# EAGLE library part PTOP-14 (library con-amp_edit)
AMP connector
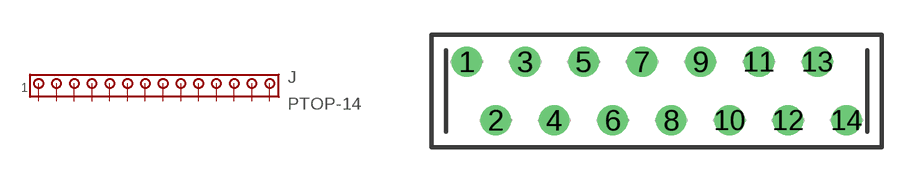
[diagram p164: symbol with the pads of PTOP-14; footprint PTOP-14]

Designator prefix J

## PTOP-14  [PTOP-14]
1  1  pas
2  2  pas
3  3  pas
4  4  pas
5  5  pas
6  6  pas
7  7  pas
8  8  pas
9  9  pas
10  10  pas
11  11  pas
12  12  pas
13  13  pas
14  14  pas

## Footprint PTOP-14 (pad centres in mm)
AMP connector
drill 0.813: 1 -8.255,1.27; 2 -6.985,-1.27; 3 -5.715,1.27; 4 -4.445,-1.27; 5 -3.175,1.27; 6 -1.905,-1.27; 7 -0.635,1.27; 8 0.635,-1.27; 9 1.905,1.27; 10 3.175,-1.27; 11 4.445,1.27; 12 5.715,-1.27; 13 6.985,1.27; 14 8.255,-1.27